# EAGLE library part DDC118 (library texas-DAS)
Octal Current Input, 20-Bit Analog-To-Digital Converter Description: The DDC118 is a 20-bit, octal channel, current-input analog-to-digital (A/D) converter. It combines both current-to-voltage and A/D conversion so that eight low-level current output devices, such as photodiodes, can be directly connected to its inputs and digitized. For each of the eight inputs, the DDC118 provides a dual-switched integrator front-end. This design allows for continuous current integration: while one integrator is being digitized by the onboard A/D converter, the other is integrating the input current. Adjustable full-scale ranges from 12pC to 350pC and adjustable integration times from 50µs to 1s allow currents from fAs to µAs to be measured with outstanding precision. Low-level linearity is ±0.5ppm of the full-scale range and noise is 5.2ppm of the full-scale range. Two modes of operation are provided. In Low-Power mode, total power dissipation is only 13.5mW per channel with a maximum data rate of 2.5kSPS. High-Speed mode supports data rates up to 3.125kSPS with a corresponding dissipation of 18mW per channel. Features: SINGLE-CHIP SOLUTION TO DIRECTLY MEASURE EIGHT LOW-LEVEL CURRENTS HIGH PRECISION, TRUE INTEGRATING FUNCTION INTEGRAL LINEARITY: ±0.01% of Reading ±0.5ppm of FSR VERY LOW NOISE: 5.2ppm of FSR LOW POWER: 13.5mW/channel ADJUSTABLE DATA RATE: Up to 3.125kSPS PROGRAMMABLE FULL SCALE DAISY-CHAINABLE SERIAL INTERFACE Datasheet: http://www.ti.com/lit/ds/symlink/ddc118.pdf Additional information: Basics of operation can be found in the DDC112 datasheet: http://www.ti.com/lit/ds/symlink/ddc112.pdf For practical daisychaining and layout considerations, consider the DDC112 evaluation board documentation: http://www.ti.com/lit/an/sbaa029/sbaa029.pdf
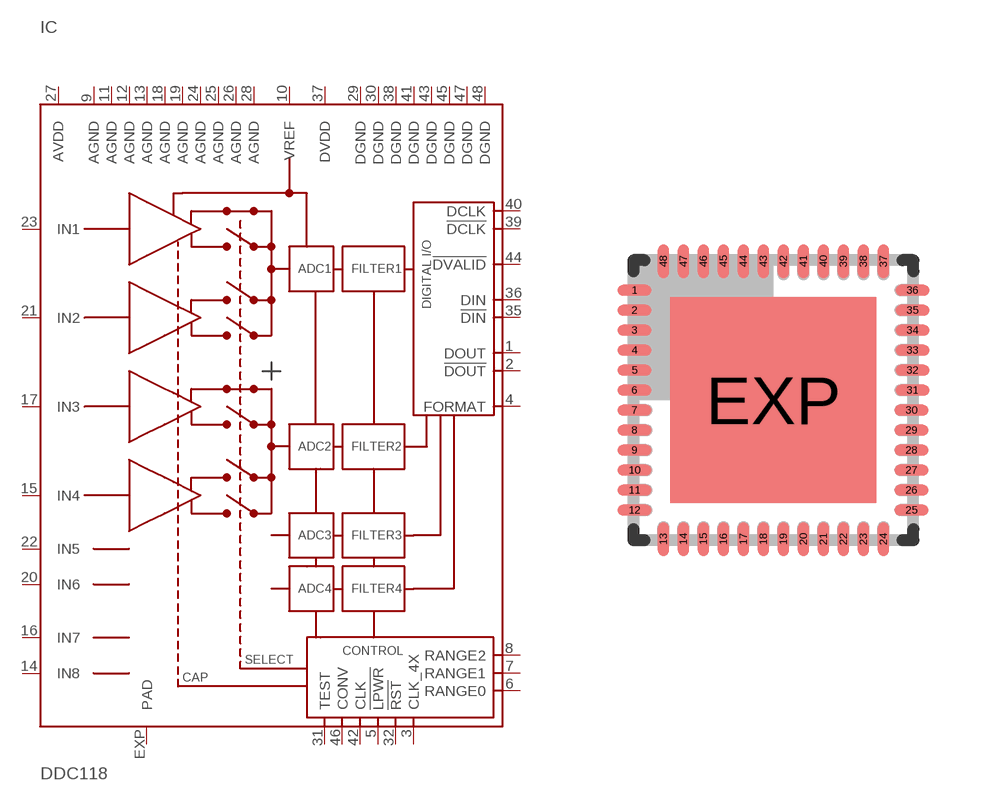
[diagram p2: symbol with the pads of RGZ_S-PVQFN-N48; footprint RGZ_S-PVQFN-N48]

Designator prefix IC

## DDC118  [RGZ_S-PVQFN-N48]
1  DOUT  out
2  !DOUT  out
3  CLK_4X  in
4  FORMAT  out
5  !LPWR  in
6  RANGE0  out
7  RANGE1  out
8  RANGE2  out
9  AGND  pwr
10  VREF  pas
11  AGND  pwr
12  AGND  pwr
13  AGND  pwr
14  IN8  in
15  IN4  in
16  IN7  in
17  IN3  in
18  AGND  pwr
19  AGND  pwr
20  IN6  in
21  IN2  in
22  IN5  in
23  IN1  in
24  AGND  pwr
25  AGND  pwr
26  AGND  pwr
27  AVDD  pwr
28  AGND  pwr
29  DGND  pwr
30  DGND  pwr
31  TEST  pwr
32  !RST  in
35  !DIN  in
36  DIN  in
37  DVDD  pwr
38  DGND  pwr
39  !DCLK  in
40  DCLK  in
41  DGND  pwr
42  CLK  in
43  DGND  pwr
44  !DVALID  out
45  DGND  pwr
46  CONV  in
47  DGND  pwr
48  DGND  pwr
EXP  PAD  pwr

## Footprint RGZ_S-PVQFN-N48 (pad centres in mm)
RGZ (S-PVQFN-N48)
smd 0.85 x 0.28: 1 -3.475,2.75; 2 -3.475,2.25; 3 -3.475,1.75; 4 -3.475,1.25; 5 -3.475,0.75; 6 -3.475,0.25; 7 -3.475,-0.25; 8 -3.475,-0.75; 9 -3.475,-1.25; 10 -3.475,-1.75; 11 -3.475,-2.25; 12 -3.475,-2.75; 25 3.45,-2.75; 26 3.45,-2.25; 27 3.45,-1.75; 28 3.45,-1.25; 29 3.45,-0.75; 30 3.45,-0.25; 31 3.475,0.25; 32 3.475,0.75; 33 3.475,1.25; 34 3.475,1.75; 35 3.475,2.25; 36 3.475,2.75
smd 0.28 x 0.85: 13 -2.75,-3.475; 14 -2.25,-3.475; 15 -1.75,-3.475; 16 -1.25,-3.475; 17 -0.75,-3.475; 18 -0.25,-3.475; 19 0.25,-3.475; 20 0.75,-3.475; 21 1.25,-3.475; 22 1.75,-3.475; 23 2.25,-3.475; 24 2.75,-3.475; 37 2.75,3.475; 38 2.25,3.475; 39 1.75,3.475; 40 1.25,3.475; 41 0.75,3.475; 42 0.25,3.475; 43 -0.25,3.475; 44 -0.75,3.475; 45 -1.25,3.475; 46 -1.75,3.475; 47 -2.25,3.475; 48 -2.75,3.475
smd 5.15 x 5.15: EXP 0,0